# EAGLE library part RJ12 (library AtoG)
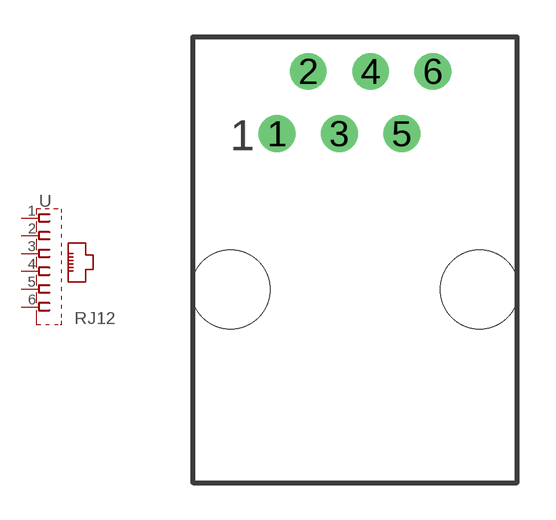
[diagram p4: symbol with the pads of RJ12; footprint RJ12]

Designator prefix -

## RJ12  [RJ12]
1  1  pas
2  2  pas
3  3  pas
4  4  pas
5  5  pas
6  6  pas

## Footprint RJ12 (pad centres in mm)
drill 0.9 pad 1.5: 1 -3.175,6.35; 2 -1.905,8.89; 3 -0.635,6.35; 4 0.635,8.89; 5 1.905,6.35; 6 3.175,8.89
hole 3.2 at -5.08,0
hole 3.2 at 5.08,0